# EAGLE library part CY8C4014LQI-421 (library CY8C4014LQI-421)
Cypress Semiconductor CY8C4014LQI-421, 32bit Microcontroller, CY8C4014, 16MHz, 16 kB Flash, 16-Pin QFN Source: Datasheet <http://uk.rs-online.com/web/p/products/1783282>
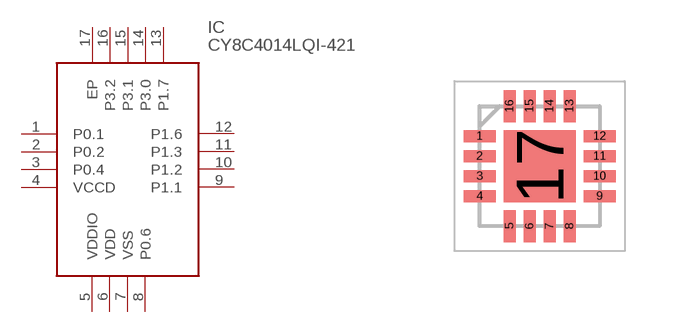
[diagram p0: symbol with the pads of QFN50P300X300X60-17N; footprint QFN50P300X300X60-17N]

Designator prefix IC

## CY8C4014LQI-421 (Description: Cypress Semiconductor CY8C4014LQI-421, 32bit Microcontroller, CY8C4014, 16MHz, 16 kB Flash, 16-Pin QFN; Height: 0.6mm; Manufacturer_Name: Infineon; Manufacturer_Part_Number: CY8C4014LQI-421; Mouser_Part_Number: 727-CY8C4014LQI-421; Mouser_Price-Stock: https://www.mouser.co.uk/ProductDetail/Cypress-Semiconductor/CY8C4014LQI-421?qs=h2odU9YHRxyINW4X3fOvRg%3D%3D)  [QFN50P300X300X60-17N]
1  P0.1
2  P0.2
3  P0.4
4  VCCD
5  VDDIO
6  VDD
7  VSS
8  P0.6
9  P1.1
10  P1.2
11  P1.3
12  P1.6
13  P1.7
14  P3.0
15  P3.1
16  P3.2
17  EP

## Footprint QFN50P300X300X60-17N (pad centres in mm)
CY8C4014LQI-421
smd 0.8 x 0.3: 1 -1.5,0.75; 2 -1.5,0.25; 3 -1.5,-0.25; 4 -1.5,-0.75; 9 1.5,-0.75; 10 1.5,-0.25; 11 1.5,0.25; 12 1.5,0.75
smd 0.3 x 0.8: 5 -0.75,-1.5; 6 -0.25,-1.5; 7 0.25,-1.5; 8 0.75,-1.5; 13 0.75,1.5; 14 0.25,1.5; 15 -0.25,1.5; 16 -0.75,1.5
smd 1.8 x 1.8: 17 0,0